# Altium schematic symbol library Wifi Module.SchLib: 1 symbol
Pins are listed as number, name and electrical type; pins without a type are passive.

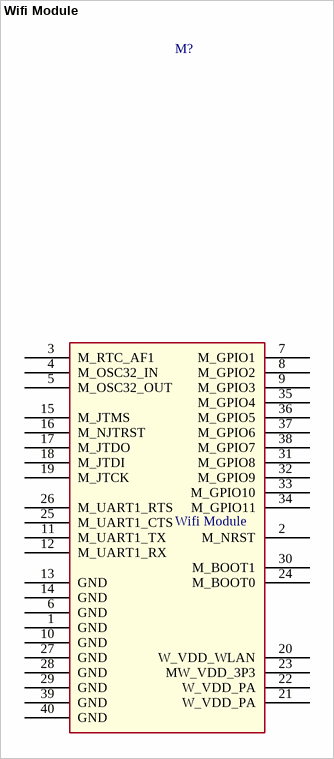
[diagram p0: symbol Wifi Module]

## Wifi Module
designator M?
Module Wifi + MCU STM32 Murata
pins: 1 GND, 2 M_NRST, 3 M_RTC_AF1, 4 M_OSC32_IN, 5 M_OSC32_OUT, 6 GND, 7 M_GPIO1, 8 M_GPIO2, 9 M_GPIO3, 10 GND, 11 M_UART1_TX, 12 M_UART1_RX, 13 GND, 14 GND, 15 M_JTMS, 16 M_NJTRST, 17 M_JTDO, 18 M_JTDI, 19 M_JTCK, 20 W_VDD_WLAN, 21 W_VDD_PA, 22 W_VDD_PA, 23 MW_VDD_3P3, 24 M_BOOT0, 25 M_UART1_CTS, 26 M_UART1_RTS, 27 GND, 28 GND, 29 GND, 30 M_BOOT1, 31 M_GPIO8, 32 M_GPIO9, 33 M_GPIO10, 34 M_GPIO11, 35 M_GPIO4, 36 M_GPIO5, 37 M_GPIO6, 38 M_GPIO7, 39 GND, 40 GND